# EAGLE library part 62000611821 (library Wurth_Elektronik2)
WR-PHD 2.00mm Socket Header, 6 Pins=>Code : Con_BTB_SHD_2.00_1_THT_62000611821 <http://katalog.we-online.de/media/thumbs2/eican/thb_Con_BTB_SHD_2.00_1_THT_6200xx11821_pf2.jpg> Details see: http://katalog.we-online.de/en/em/620_0xx_118_21 Created 2014-06-03, Karrer Zheng 2014 (C) Würth Elektronik
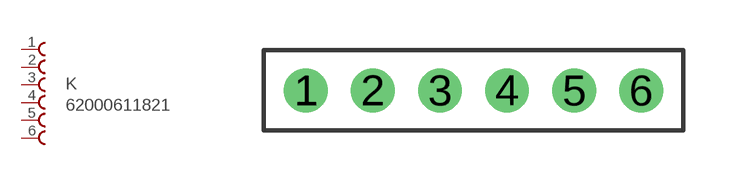
[diagram p251: symbol with the pads of 62000611821; footprint 62000611821]

Designator prefix K

## 62000611821  [62000611821]
1  1  pas
2  2  pas
3  3  pas
4  4  pas
5  5  pas
6  6  pas

## Footprint 62000611821 (pad centres in mm)
WR-PHD 2.00mm Socket Header, 6 Pins
drill 0.8: 1 -5,0; 2 -3,0; 3 -1,0; 4 1,0; 5 3,0; 6 5,0